# Altium footprint library steve_breakout.PcbLib: 3 footprints
Each footprint in its own frame and in the unit in brackets; x right, y up, seen from the top. Pads: shape width x height; smd on the part's side, far side on the other; paste and mask are expansions set on the pad; w line width, h text height; cw(c..) or ccw(c..) is an arc to the next point about the centre after c.
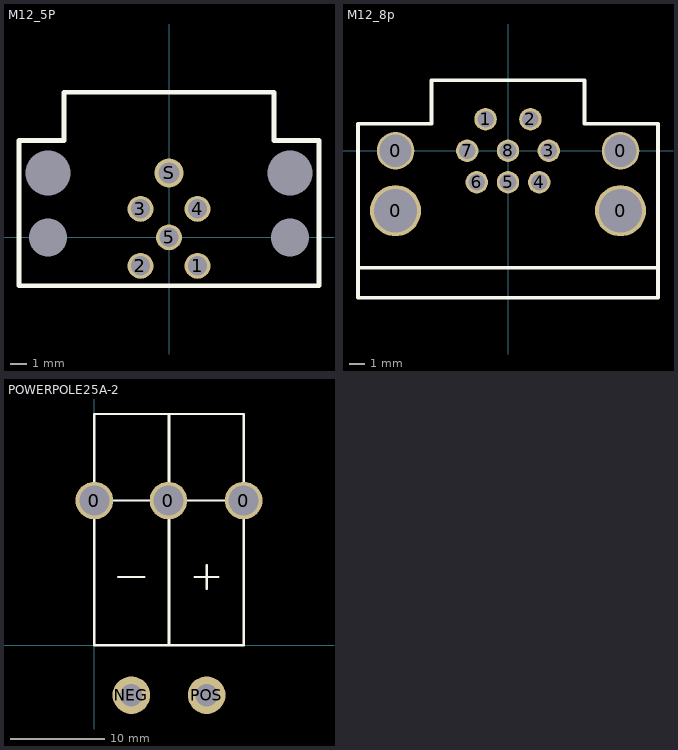
[diagram p0: the footprints below, top view; thin cyan lines are the x and y axes]

## M12_5P [mm] "M12 Connector"
height 17
pads (10):
  round 0 hole 2.35: 0(-7.5,0) 0(7.5,0)
  round 0 hole 2.8: 0(-7.5,4) 0(7.5,4)
  round 1.6 hole 1.2: 1(1.768,-1.768) 2(-1.768,-1.768) 3(-1.768,1.768) 4(1.768,1.768) 5(0,0)
  round 1.8 hole 1.3: S(0,4)
Top Overlay:
  lines w0.3: 9.2,-3 -9.3,-3 -9.3,6 -6.5,6 -6.5,9 6.5,9 6.5,6 9.3,6 ; 9.3,-3 9.3,5.95

## M12_8p [mm]
pads (12):
  round 3.4 hole 2.9: 0(-7.5,-4) 0(7.5,-4)
  round 2.5 hole 2.15: 0(-7.5,0) 0(7.5,0)
  round 1.5 hole 1.1: 1(-1.5,2.1) 2(1.5,2.1) 3(2.72,0) 4(2.08,-2.1) 5(0,-2.1) 6(-2.08,-2.1) 7(-2.72,0) 8(0,0)
Top Overlay:
  lines w0.254: -10,-7.8 10,-7.8 ; -10,-9.8 10,-9.8 10,1.8 5.1,1.8 5.1,4.7 0,4.7 -5.1,4.7 -5.1,1.8 -10,1.8 -10,-9.8

## POWERPOLE25A-2 [mm]
height 10
pads (5):
  round 4 hole 3.2: 0(0,15.367) 0(7.874,15.367) 0(15.875,15.367)
  round 4 hole 2.4: NEG(3.937,-5.334) POS(11.938,-5.334)
Top Overlay:
  lines w0.254: -0.013,14.127 ccw(c-0.013,15.377) -0.013,16.627 ; -0.013,15.377 7.887,15.367 ; 2.54,7.239 5.334,7.239 ; 7.887,14.127 cw(c7.887,15.377) 7.887,16.627 ; 7.988,14.127 ccw(c7.988,15.377) 7.988,16.627 ; 7.988,15.377 15.888,15.367 ; 10.668,7.239 13.208,7.239 ; 11.938,5.969 11.938,8.509 ; 15.888,14.127 cw(c15.888,15.377) 15.888,16.627 ; -0.013,-0.023 7.887,-0.023 7.887,24.577 -0.013,24.577 -0.013,-0.023 ; 7.988,-0.023 7.988,24.577 15.888,24.577 15.888,-0.023 7.988,-0.023